# Altium footprint library NLV32T-151J-EFD.PcbLib: 1 footprints
Each footprint in its own frame and in the unit in brackets; x right, y up, seen from the top. Pads: shape width x height; smd on the part's side, far side on the other; paste and mask are expansions set on the pad; w line width, h text height; cw(c..) or ccw(c..) is an arc to the next point about the centre after c.
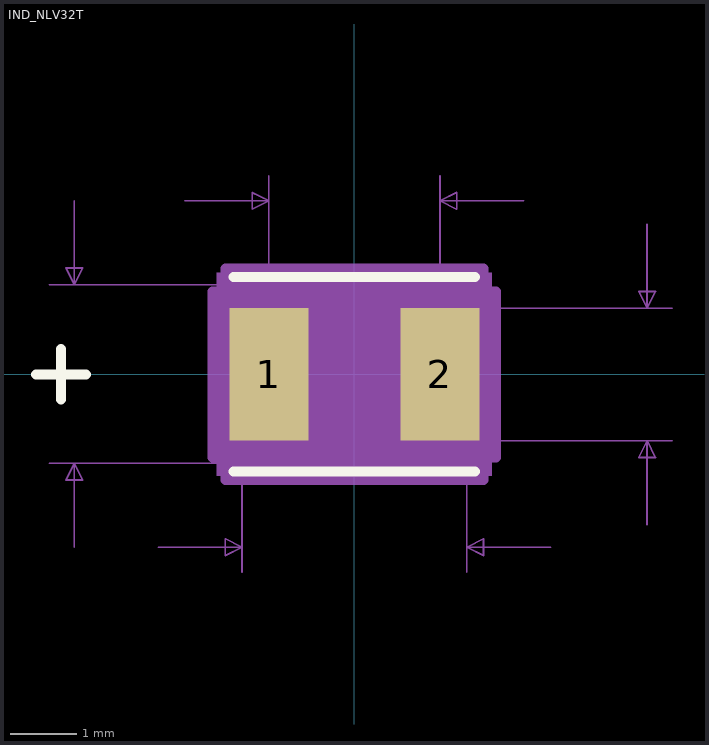
[diagram p0: the footprint, top view; thin cyan lines are the x and y axes]

## IND_NLV32T [mil]
pads (2):
  rect 47x79 smd: 1(-51,0) 2(51,0)
Top Overlay:
  lines w6: -190,0 -160,0 ; -175,-15 -175,15 ; -72,-58 72,-58 ; -72,58 72,58
Mechanical 5:
  region: 82,-60.5 -82,-60.5 -82,60.5 82,60.5
Mechanical 7:
  lines w1: -182,-53 -67,-53 -67,-118 ; -182,53.5 -67,53.5 ; -167,-103 -167,-53 ; -167,103.5 -167,53.5 ; -117,-103 -67,-103 ; -101,103.5 -51,103.5 ; -51,49.5 -51,118.5 ; 51,49.5 51,118.5 ; 67,-118 67,-53 ; 84.5,-39.5 189.5,-39.5 ; 84.5,39.5 189.5,39.5 ; 101,103.5 51,103.5 ; 117,-103 67,-103 ; 174.5,-89.5 174.5,-39.5 ; 174.5,89.5 174.5,39.5 ; -167,-53 -172,-63 -162,-63 -167,-53 ; -167,53.5 -172,63.5 -162,63.5 -167,53.5 ; -67,-103 -77,-98 -77,-108 -67,-103 ; -51,103.5 -61,108.5 -61,98.5 -51,103.5 ; 51,103.5 61,108.5 61,98.5 51,103.5 ; 67,-103 77,-98 77,-108 67,-103 ; 174.5,-39.5 169.5,-49.5 179.5,-49.5 174.5,-39.5 ; 174.5,39.5 169.5,49.5 179.5,49.5 174.5,39.5
  text "Default Padstyle: RX47Y79D0T" at -350,-278.5 h50
  text "Alt 1 Padstyle: OX60Y90D30P" at -337.5,-353.5 h50
  text "Alt 2 Padstyle: OX90Y60D30P" at -337.5,-428.5 h50
  text "0.079in/2.007mm" at 194.5,-12.5 h25
  text "0.102in/2.591mm" at -93.75,123.5 h25
  text "0.106in/2.692mm" at -374.5,-12.5 h25
  text "0.134in/3.404mm" at -93.75,-148 h25
Mechanical 13:
  lines w1: -190,0 -160,0 ; -175,-15 -175,15 ; -67,-53 67,-53 67,53 -67,53 -67,-53
Mechanical 15:
  region: -77,-49.5 -84.5,-49.5 -84.5,49.5 -77,49.5 -77,63 77,63 77,49.5 84.5,49.5 84.5,-49.5 77,-49.5 77,-63 -77,-63
  lines w6: -84.5,-49.5 -84.5,49.5 -77,49.5 -77,63 77,63 77,49.5 84.5,49.5 84.5,-49.5 77,-49.5 77,-63 -77,-63 -77,-49.5 -84.5,-49.5
3D body: height 10, standoff 0, extent 0,0 10,10